# Altium footprint library TPS70445_PWP_24.PCBLIB: 1 footprints
Each footprint in its own frame and in the unit in brackets; x right, y up, seen from the top. Pads: shape width x height; smd on the part's side, far side on the other; paste and mask are expansions set on the pad; w line width, h text height; cw(c..) or ccw(c..) is an arc to the next point about the centre after c.
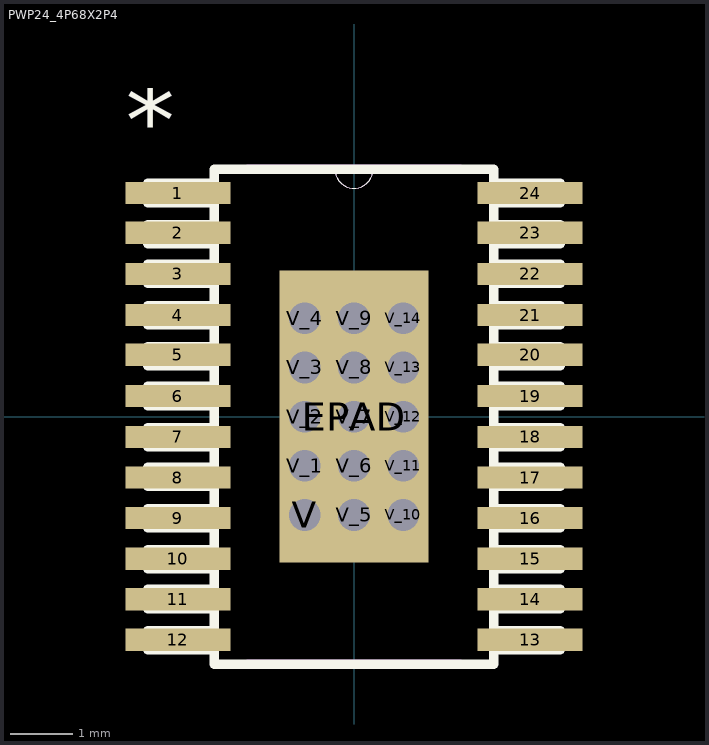
[diagram p0: the footprint, top view; thin cyan lines are the x and y axes]

## PWP24_4P68X2P4 [mil]
pads (40):
  rect 66x14 smd: 1(-111,141) 2(-111,116) 3(-111,90) 4(-111,64) 5(-111,39) 6(-111,13) 7(-111,-12.79) 8(-111,-38.39) 9(-111,-63.98) 10(-111,-89.57) 11(-111,-115.16) 12(-111,-140.75) 13(111,-140.75) 14(111,-115.16) 15(111,-89.57) 16(111,-63.98) 17(111,-38.39) 18(111,-12.79) 19(111,13) 20(111,39) 21(111,64) 22(111,90) 23(111,116) 24(111,141)
  rect 94x184 smd: EPAD(0,0)
  round 30 hole 20: V(-31,-62) V_1(-31,-31) V_2(-31,0) V_3(-31,31) V_4(-31,62) V_5(0,-62) V_6(0,-31) V_7(0,0) V_8(0,31) V_9(0,62) V_10(31,-62) V_11(31,-31) V_12(31,0) V_13(31,31) V_14(31,62)
Top Overlay:
  lines w0: -12,156 ccw(c0,156) 12,156
  lines w6: -130,-147 -130,-135 -88,-135 -88,-147 -130,-147 ; -130,-121 -130,-109 -88,-109 -88,-121 -130,-121 ; -130,-96 -130,-84 -88,-84 -88,-96 -130,-96 ; -130,-70 -130,-58 -88,-58 -88,-70 -130,-70 ; -130,-44 -130,-32 -88,-32 -88,-44 -130,-44 ; -130,-19 -130,-7 -88,-7 -88,-19 -130,-19 ; -130,7 -130,19 -88,19 -88,7 -130,7 ; -130,32 -130,44 -88,44 -88,32 -130,32 ; -130,58 -130,70 -88,70 -88,58 -130,58 ; -130,84 -130,96 -88,96 -88,84 -130,84 ; -130,109 -130,121 -88,121 -88,109 -130,109 ; -130,135 -130,147 -88,147 -88,135 -130,135 ; -88,-156 88,-156 88,156 12,156 -12,156 -88,156 -88,-156 ; 88,-147 88,-135 130,-135 130,-147 88,-147 ; 88,-121 88,-109 130,-109 130,-121 88,-121 ; 88,-96 88,-84 130,-84 130,-96 88,-96 ; 88,-70 88,-58 130,-58 130,-70 88,-70 ; 88,-44 88,-32 130,-32 130,-44 88,-44 ; 88,-19 88,-7 130,-7 130,-19 88,-19 ; 88,7 88,19 130,19 130,7 88,7 ; 88,32 88,44 130,44 130,32 88,32 ; 88,58 88,70 130,70 130,58 88,58 ; 88,84 88,96 130,96 130,84 88,84 ; 88,109 88,121 130,121 130,109 88,109 ; 88,135 88,147 130,147 130,135 88,135
  text "*" at -144,150 h77.5
Top Paste:
  region: 0,0 10,0 10,10 0,10
  region: 0,0 10,0 10,10 0,10
  region: 0,0 10,0 10,10 0,10
  region: 0,0 10,0 10,10 0,10
  region: 0,0 10,0 10,10 0,10
  region: 0,0 10,0 10,10 0,10
  region: 0,0 10,0 10,10 0,10
  region: 0,0 10,0 10,10 0,10
  region: 0,0 10,0 10,10 0,10
  region: 0,0 10,0 10,10 0,10
  region: 0,0 10,0 10,10 0,10
  region: 0,0 10,0 10,10 0,10
  region: 0,0 10,0 10,10 0,10
  region: 0,0 10,0 10,10 0,10
  region: 0,0 10,0 10,10 0,10
  region: 0,0 10,0 10,10 0,10
  region: 0,0 10,0 10,10 0,10
  region: 0,0 10,0 10,10 0,10
  region: 0,0 10,0 10,10 0,10
  region: 0,0 10,0 10,10 0,10
  region: 0,0 10,0 10,10 0,10
  region: 0,0 10,0 10,10 0,10
  region: 0,0 10,0 10,10 0,10
  region: 0,0 10,0 10,10 0,10
Top Solder:
  region: 0,0 10,0 10,10 0,10
  region: 0,0 10,0 10,10 0,10
  region: 0,0 10,0 10,10 0,10
  region: 0,0 10,0 10,10 0,10
  region: 0,0 10,0 10,10 0,10
  region: 0,0 10,0 10,10 0,10
  region: 0,0 10,0 10,10 0,10
  region: 0,0 10,0 10,10 0,10
  region: 0,0 10,0 10,10 0,10
  region: 0,0 10,0 10,10 0,10
Mechanical 16:
  region: 0,0 10,0 10,10 0,10
  region: 0,0 10,0 10,10 0,10
  lines w0: -12,156 ccw(c0,156) 12,156
  lines w6: -67,-156 67,-156 ; -67,156 -12,156 12,156 67,156
  text "*" at -144,150 h77.5